# Altium schematic symbol library D_Z-1A-3C.SchLib: 1 symbol
Pins are listed as number, name and electrical type; pins without a type are passive.

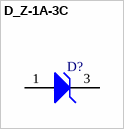
[diagram p0: symbol D_Z-1A-3C]

## D_Z-1A-3C
designator D?
pins: 1 A, 3 C